# Altium footprint library IC_SOT.PcbLib: 31 footprints (part 1 of 2)
Each footprint in its own frame and in the unit in brackets; x right, y up, seen from the top. Pads: shape width x height; smd on the part's side, far side on the other; paste and mask are expansions set on the pad; w line width, h text height; cw(c..) or ccw(c..) is an arc to the next point about the centre after c.
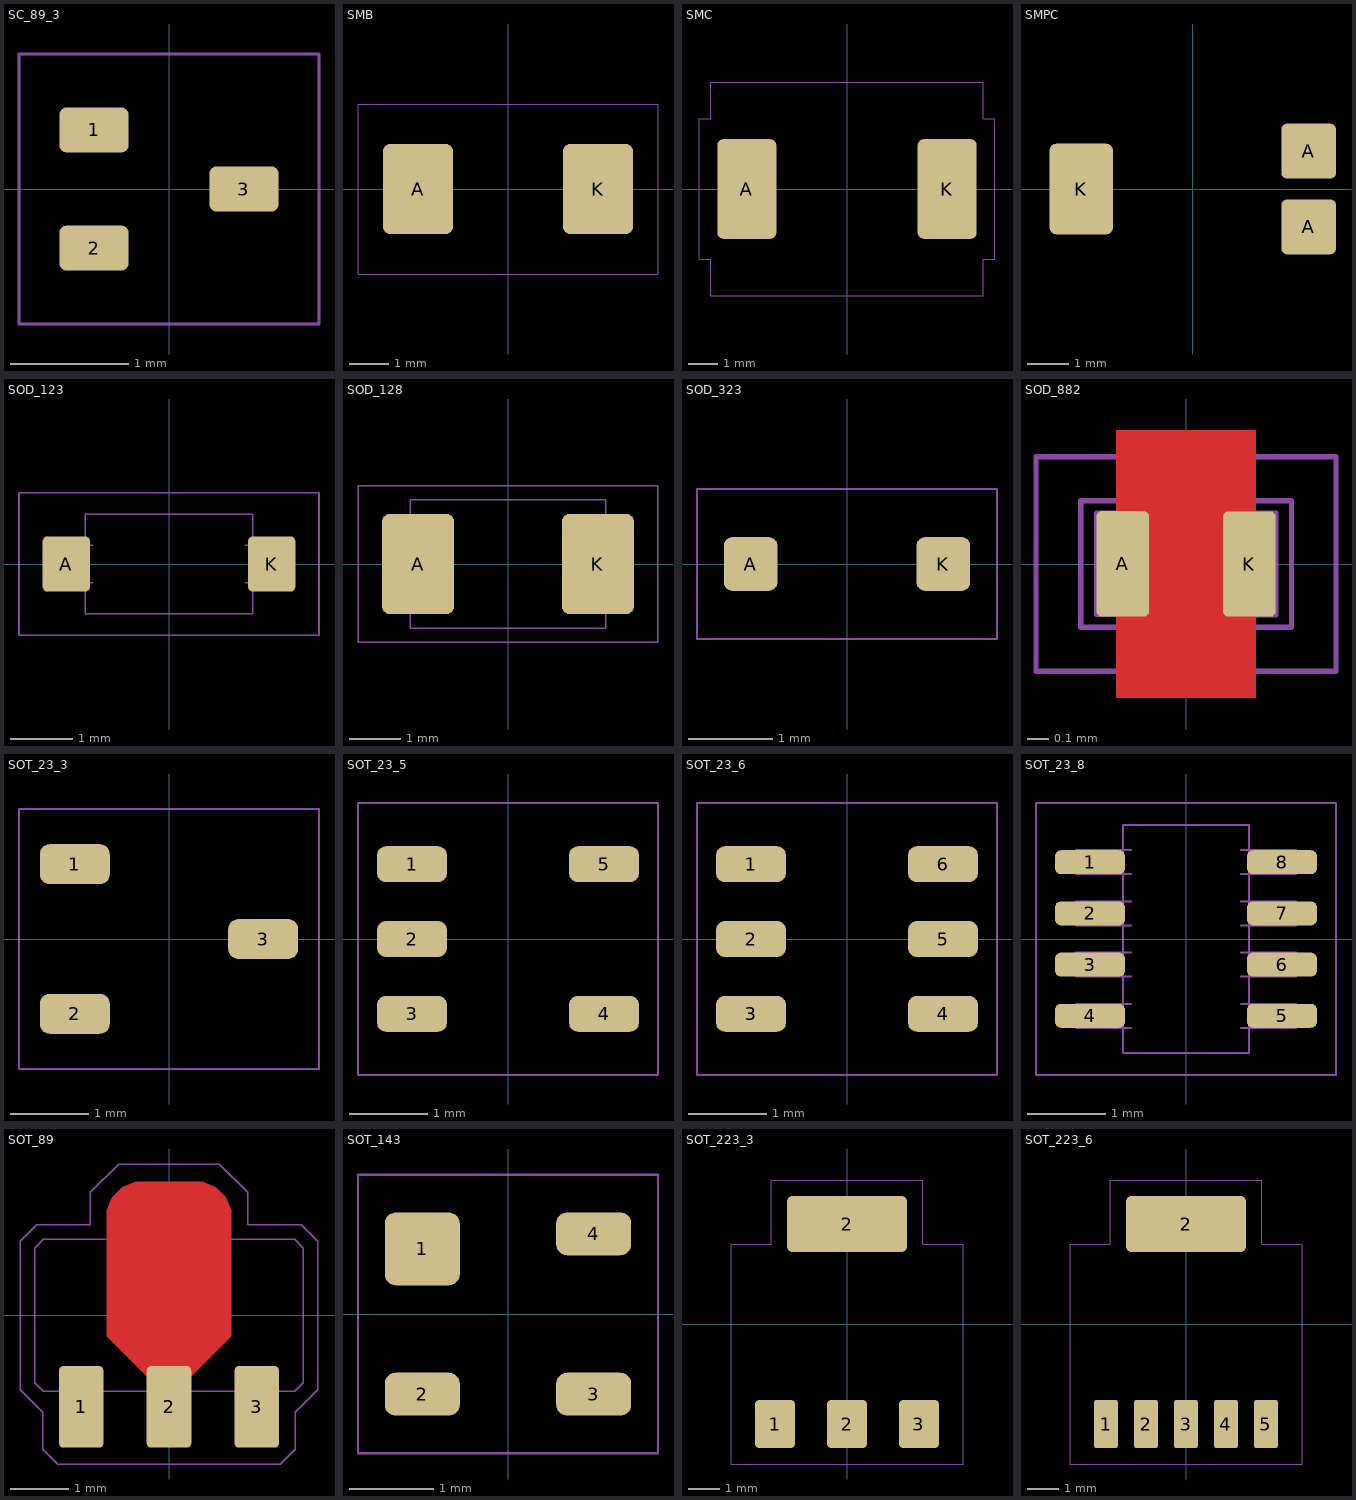
[diagram p0: the footprints below, top view; thin cyan lines are the x and y axes]

## SC_89_3 [mil]
pads (3):
  rrect30% 23x15 smd mask+2: 1(-25,19.68) 2(-25,-19.68) 3(25,0)
Top Courtyard:
  lines w1: -50,-45 -50,45 50,45 50,-45 -50,-45
3D body "SC-89-3.step": height 30.71, standoff -0.04, extent -33.46,-33.46 33.47,33.47

## SMB [mil]
pads (2):
  rrect20% 70x90 smd paste-5: A(-90,0) K(90,0)
Top Courtyard:
  lines w1: -150,-85 -150,85 150,85 150,-85 -150,-85
3D body: height 84, standoff 0, extent -85,-70 85,70
3D body: height 85, standoff 84, extent 35,-70 60,70
3D body: height 50, standoff 0, extent 67,-40 107,40
3D body: height 50, standoff 0, extent -107,-40 -67,40

## SMC [mil]
pads (2):
  rrect20% 80x135 smd mask+2: A(-135.83,0) K(135.83,0)
Top Courtyard:
  lines w1: -200,-95 -185,-95 -185,-145 185,-145 185,-95 200,-95 200,95 185,95 185,145 -185,145 -185,95 -200,95 -200,-95
3D body "SMC.step": height 94.49, standoff 1.29, extent -160.04,-120.09 160.03,120.07

## SMPC [mil]
pads (3):
  rrect20% 52x52 smd paste-5 mask+2: A(110,-36) A(110,36)
  rrect20% 60x86 smd paste-5 mask+2: K(-106,0)
3D body "SMPC.STEP": height 41.34, standoff 0, extent -126.96,-90.55 128.94,90.55

## SOD_123 [mil]
pads (2):
  rrect20% 30x35 smd: A(-65,0) K(65,0)
Top Solder:
  region: 15,15 5,15 5,-15 15,-15
  region: 10,0 -15,-15 -15,15
Top Courtyard:
  lines w1: -95,-45 -95,45 95,45 95,-45 -95,-45
Top Component Outline:
  lines w1: -59.99,-12.01 -59.99,12.01 ; -48.42,-12.01 -72.43,-12.01 -72.43,12.01 -48.42,12.01 ; 48.43,-12.01 72.44,-12.01 72.44,12.01 48.43,12.01 ; 60,-12.01 60,12.01 ; -52.99,-31.5 -52.99,31.5 53,31.5 53,-31.5 -52.99,-31.5
3D body: height 46.1, standoff 46, extent 29.5,-27 48.5,27
3D body: height 46.06, standoff 1.18, extent -52.99,-31.5 53,31.5
3D body: height 17.72, standoff 0, extent 48.2,-11.79 60,12.01
3D body: height 5.91, standoff 0, extent 60,-12.01 72.44,12.01
3D body: height 5.91, standoff 0, extent -72.43,-12.01 -59.99,12.01
3D body: height 17.72, standoff 0, extent -59.99,-12.01 -48.2,11.79

## SOD_128 [mm]
pads (2):
  rrect20% 1.4x1.95 smd: A(-1.75,0) K(1.75,0)
Top Solder:
  region: 0.381,0.381 0.127,0.381 0.127,-0.381 0.381,-0.381
  region: 0.254,0 -0.381,-0.381 -0.381,0.381
Top Courtyard:
  lines w0.025: -2.921,-1.524 -2.921,1.524 2.921,1.524 2.921,-1.524 -2.921,-1.524
Top Component Outline:
  lines w0.025: -1.15,-0.875 -2.35,-0.875 -2.35,0.875 -1.15,0.875 ; 1.15,-0.875 2.35,-0.875 2.35,0.875 1.15,0.875 ; -1.9,-1.25 1.9,-1.25 1.9,1.25 -1.9,1.25 -1.9,-1.25
3D body: height 0.16, standoff 0, extent -2.35,-0.875 -1.15,0.875
3D body: height 1.1, standoff 0.03, extent -1.9,-1.25 1.9,1.25
3D body: height 0.16, standoff 0, extent 1.15,-0.875 2.35,0.875
3D body: height 1.17, standoff 1.17, extent 1.143,-1.143 1.778,1.143

## SOD_323 [mil]
pads (2):
  rrect30% 25x25 smd mask+2: A(-45,0) K(45,0)
Top Solder:
  region: 15,15 5,15 5,-15 15,-15
  region: 10,0 -15,-15 -15,15
Top Courtyard:
  lines w1: -70,-35 -70,35 70,35 70,-35 -70,-35
3D body: height 7, standoff 0, extent 40,-6 50,6
3D body: height 20, standoff 0, extent 28.35,-6 40,6
3D body: height 35, standoff 0, extent -35,-25 35,25
3D body: height 20, standoff 0, extent -40,-6 -28.35,6
3D body: height 7, standoff 0, extent -50,-6 -40,6
3D body: height 36, standoff 35, extent 15,-25 25,25

## SOD_882 [mm] "XDFN2 Diode"
pads (2):
  rrect20% 0.25x0.5 smd paste-0.025 mask+0.038: A(-0.3,0) K(0.3,0)
Top Layer:
  pour cut-out: 0.33,-0.635 -0.33,-0.635 -0.33,0.635 0.33,0.635
Top Solder:
  region: 0.203,0.508 -0.203,0.508 -0.203,-0.508 0.203,-0.508
Top Courtyard:
  lines w0.025: -0.711,-0.508 0.711,-0.508 0.711,0.508 -0.711,0.508 -0.711,-0.508
Top Component Outline:
  lines w0.025: -0.425,-0.24 -0.425,0.24 -0.175,0.24 ; -0.425,-0.24 -0.175,-0.24 -0.175,0.24 ; -0.425,-0.24 -0.175,0.24 ; 0.175,-0.24 0.425,-0.24 0.425,0.24 ; 0.175,-0.24 0.175,0.24 0.425,0.24 ; 0.175,-0.24 0.425,0.24 ; -0.5,-0.3 0.5,-0.3 0.5,0.3 -0.5,0.3 -0.5,-0.3
3D body: height 0.39, standoff 0.01, extent -0.5,-0.3 0.5,0.3

## SOT_23_3 [mil]
pads (3):
  rrect50% 35x20 smd mask+2: 1(-47.09,37.4) 2(-47.09,-37.4) 3(47.09,0)
Top Courtyard:
  lines w1: -75,-65 75,-65 75,65 -75,65 -75,-65
3D body "SOT23-3.STEP": height 51.18, standoff 0, extent -55.11,-57.08 55.12,57.09

## SOT_23_5 [mil]
pads (5):
  rrect50% 35x18 smd mask+2: 1(-48,37.4) 2(-48,0) 3(-48,-37.4) 4(48,-37.4) 5(48,37.4)
Top Courtyard:
  lines w1: -75,-68 -75,68 75,68 75,-68 -75,-68
3D body "SOT23-5.STEP": height 57.09, standoff 0, extent -55.11,-57.09 55.12,57.09

## SOT_23_6 [mil]
pads (6):
  rrect50% 35x18 smd mask+2: 1(-48,37.4) 2(-48,0) 3(-48,-37.4) 4(48,-37.4) 5(48,0) 6(48,37.4)
Top Solder:
  region: -15,35 3,24 3,46
Top Courtyard:
  lines w1: -75,-68 75,-68 75,68 -75,68 -75,-68
3D body "SOT23-6.STEP": height 57.09, standoff 0, extent -55.11,-57.09 55.12,57.09

## SOT_23_8 [mil] "8-Lead SOT-23"
pads (8):
  rrect50% 35x12 smd mask+2: 1(-48,38.39) 2(-48,12.8) 3(-48,-12.8) 4(-48,-38.39) 5(48,-38.39) 6(48,-12.8) 7(48,12.8) 8(48,38.39)
Top Solder:
  region: -15,35 3,24 3,46
Top Courtyard:
  lines w1: -75,-68 -75,68 75,68 75,-68 -75,-68
Top Component Outline:
  lines w1: -27.4,-44.39 -39.21,-44.39 ; -27.4,-32.39 -39.21,-32.39 ; -27.4,-18.8 -39.21,-18.8 ; -27.4,-6.8 -39.21,-6.8 ; -27.4,6.8 -39.21,6.8 ; -27.4,18.8 -39.21,18.8 ; -27.4,32.39 -39.21,32.39 ; -27.4,44.39 -39.21,44.39 ; 27.4,-44.39 39.21,-44.39 ; 27.4,-32.39 39.21,-32.39 ; 27.4,-18.8 39.21,-18.8 ; 27.4,-6.8 39.21,-6.8 ; 27.4,6.8 39.21,6.8 ; 27.4,18.8 39.21,18.8 ; 27.4,32.39 39.21,32.39 ; 27.4,44.39 39.21,44.39 ; -43.31,-44.39 -39.21,-44.39 ; -43.31,-44.39 -55.12,-44.39 -55.12,-32.39 -43.31,-32.39 ; -43.31,-44.39 -43.31,-32.39 ; -43.31,-32.39 -39.21,-32.39 ; -43.31,-18.8 -39.21,-18.8 ; -43.31,-18.8 -55.12,-18.8 -55.12,-6.8 -43.31,-6.8 ; -43.31,-18.8 -43.31,-6.8 ; -43.31,-6.8 -39.21,-6.8 ; -43.31,6.8 -39.21,6.8 ; -43.31,6.8 -55.12,6.8 -55.12,18.8 -43.31,18.8 ; -43.31,6.8 -43.31,18.8 ; -43.31,18.8 -39.21,18.8 ; -43.31,32.39 -43.31,44.39 ; -43.31,32.39 -55.12,32.39 -55.12,44.39 -43.31,44.39 ; -43.31,32.39 -39.21,32.39 ; -43.31,44.39 -39.21,44.39 ; -39.21,-44.39 -39.21,-32.39 ; -39.21,-18.8 -39.21,-6.8 ; -39.21,6.8 -39.21,18.8 ; -39.21,32.39 -39.21,44.39 ; 39.21,-44.39 39.21,-32.39 ; 39.21,-44.39 43.31,-44.39 ; 39.21,-32.39 43.31,-32.39 ; 39.21,-18.8 39.21,-6.8 ; 39.21,-18.8 43.31,-18.8 ; 39.21,-6.8 43.31,-6.8 ; 39.21,6.8 39.21,18.8 ; 39.21,6.8 43.31,6.8 ; 39.21,18.8 43.31,18.8 ; 39.21,32.39 39.21,44.39 ; 39.21,32.39 43.31,32.39 ; 39.21,44.39 43.31,44.39 ; 43.31,-44.39 43.31,-32.39 ; 43.31,-44.39 55.12,-44.39 55.12,-32.39 43.31,-32.39 ; 43.31,-18.8 43.31,-6.8 ; 43.31,-18.8 55.12,-18.8 55.12,-6.8 43.31,-6.8 ; 43.31,6.8 43.31,18.8 ; 43.31,6.8 55.12,6.8 55.12,18.8 43.31,18.8 ; 43.31,32.39 43.31,44.39 ; 43.31,32.39 55.12,32.39 55.12,44.39 43.31,44.39 ; -31.5,-57.09 -31.5,57.09 31.5,57.09 31.5,-57.09 -31.5,-57.09
3D body: height 57.09, standoff 5, extent -31.5,-57.09 31.5,57.09
3D body: height 6, standoff 0, extent -55.12,32.39 -43.31,44.39
3D body: height 30, standoff 0, extent -43.31,32.39 -39.21,44.39
3D body: height 30, standoff 24, extent -43.31,32.39 -27.4,44.39
3D body: height 30, standoff 24, extent -43.31,6.8 -27.4,18.8
3D body: height 30, standoff 0, extent -43.31,6.8 -39.21,18.8
3D body: height 6, standoff 0, extent -55.12,6.8 -43.31,18.8
3D body: height 30, standoff 24, extent -43.31,-18.8 -27.4,-6.8
3D body: height 30, standoff 0, extent -43.31,-18.8 -39.21,-6.8
3D body: height 6, standoff 0, extent -55.12,-18.8 -43.31,-6.8
3D body: height 30, standoff 24, extent -43.31,-44.39 -27.4,-32.39
3D body: height 30, standoff 0, extent -43.31,-44.39 -39.21,-32.39
3D body: height 6, standoff 0, extent -55.12,-44.39 -43.31,-32.39
3D body: height 30, standoff 24, extent 27.4,-44.39 43.31,-32.39
3D body: height 30, standoff 0, extent 39.21,-44.39 43.31,-32.39
3D body: height 6, standoff 0, extent 43.31,-44.39 55.12,-32.39
3D body: height 30, standoff 24, extent 27.4,-18.8 43.31,-6.8
3D body: height 30, standoff 0, extent 39.21,-18.8 43.31,-6.8
3D body: height 6, standoff 0, extent 43.31,-18.8 55.12,-6.8
3D body: height 30, standoff 24, extent 27.4,6.8 43.31,18.8
3D body: height 30, standoff 0, extent 39.21,6.8 43.31,18.8
3D body: height 6, standoff 0, extent 43.31,6.8 55.12,18.8
3D body: height 30, standoff 24, extent 27.4,32.39 43.31,44.39
3D body: height 30, standoff 0, extent 39.21,32.39 43.31,44.39
3D body: height 6, standoff 0, extent 43.31,32.39 55.12,44.39

## SOT_89 [mil]
pads (3):
  rrect20% 30x55 smd paste-50 mask+2: 1(-59.06,-61.52) 3(59.05,-61.52)
  rrect20% 30x55 smd paste-1 mask+2: 2(0,-61.52)
Top Layer:
  region: -42,66 -42,70.77 -38.35,79.59 -31.59,86.35 -22.77,90 -18,90 18,90 22.78,90 31.6,86.35 38.35,79.6 42,70.77 42,66 42,-14 13,-43 -13,-43 -42,-14
Top Paste:
  region: 73.05,-45 45.05,-45 45.05,-88 73.05,-88
  region: -45.06,-45 -73.06,-45 -73.06,-88 -45.06,-88
  rectangle: -14,-44 14,-24
  rectangle: -38,-11 38,20
  rectangle: -38,33 38,64
Top Courtyard:
  lines w1: -100,-50 -100,50 -89,61 -53,61 -53,83 -34,102 33.99,102 52.99,83 52.99,61 88.99,61 99.99,50 99.99,-50 84.99,-65 84.99,-90 74.99,-100 -75,-100 -85,-90 -85,-65 -100,-50
Top Component Outline:
  lines w1: -90.55,-45.28 -84.65,-51.18 84.65,-51.18 90.55,-45.28 90.55,45.28 84.65,51.18 -84.65,51.18 -90.55,45.28 -90.55,-45.28 ; -68.5,-83.66 -68.5,-39.37 -49.61,-39.37 -49.61,-83.66 -68.5,-83.66 ; -36.02,-12.8 -9.45,-39.37 -9.45,-83.66 9.45,-83.66 9.45,-39.37 36.02,-12.8 36.02,62.99 15.35,83.66 -15.35,83.66 -36.02,62.99 -36.02,-12.8 ; 49.61,-83.66 49.61,-39.37 68.5,-39.37 68.5,-83.66 49.61,-83.66
3D body: height 16, standoff 0, extent 49.61,-83.66 68.5,-39.37
3D body: height 59.06, standoff 1, extent -90.73,-51.13 90.7,51.18
3D body: height 16, standoff 0, extent -36.02,-83.66 36.02,83.66
3D body: height 16, standoff 0, extent -68.5,-83.66 -49.61,-39.37

## SOT_143 [mil]
pads (4):
  rrect30% 35x34 smd paste-3 mask+2: 1(-40,30.4)
  rrect50% 35x20 smd mask+2: 2(-40,-37.4) 3(40,-37.4) 4(40,37.4)
Top Courtyard:
  lines w1: -70,-65 -70,65 70,65 70,-65 -70,-65
3D body "SOT143.STEP": height 39.37, standoff 0, extent -47.63,-57.48 47.65,57.48

## SOT_223_3 [mil]
pads (4):
  rrect20% 50x60 smd: 1(-90,-125) 2(0,-125) 3(90,-125)
  rrect20% 150x70 smd: 2(0,125)
Top Courtyard:
  lines w1: -145,-175 -145,100 -95,100 -95,180 95,180 95,100 145,100 145,-175 -145,-175
3D body "SOT223.step": height 65.43, standoff -0.71, extent -127.96,-137.01 127.95,137.01

## SOT_223_6 [mil]
pads (6):
  rrect20% 30x60 smd: 1(-100,-125) 2(-50,-125) 3(0,-125) 4(50,-125) 5(100,-125)
  rrect20% 150x70 smd: 2(0,125)
Top Courtyard:
  lines w1: -145,-175 -145,100 -95,100 -95,180 95,180 95,100 145,100 145,-175 -145,-175
3D body "SOT223-6.STEP": height 70.87, standoff 0, extent -128.93,-142.9 128.94,142.92